# Altium footprint library JAE_MX23A18NF1.PcbLib: 1 footprints
Each footprint in its own frame and in the unit in brackets; x right, y up, seen from the top. Pads: shape width x height; smd on the part's side, far side on the other; paste and mask are expansions set on the pad; w line width, h text height; cw(c..) or ccw(c..) is an arc to the next point about the centre after c.
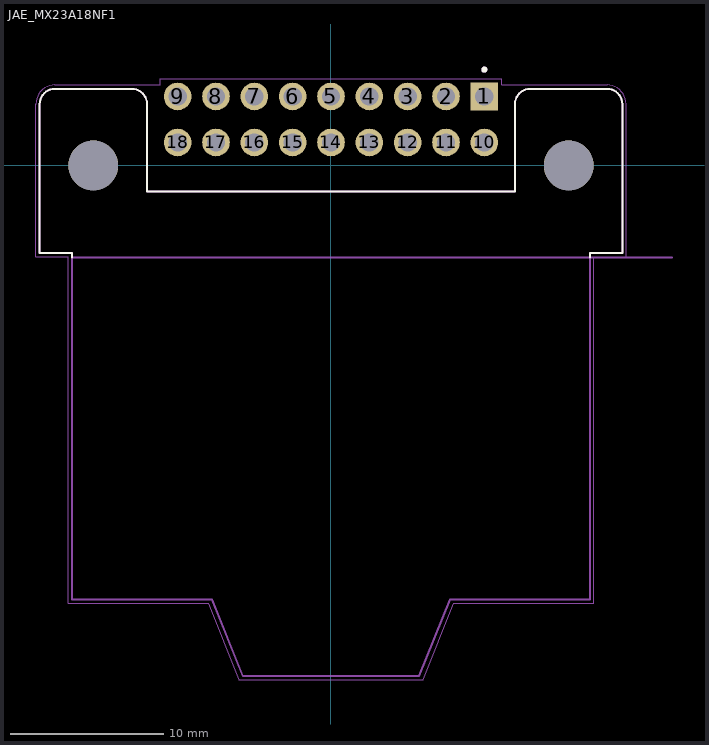
[diagram p0: the footprint, top view; thin cyan lines are the x and y axes]

## JAE_MX23A18NF1 [mm]
height 18.9
pads (20):
  rect 1.8x1.8 / inner round 1.8 / far side rect 1.8x1.8 hole 1.2 mask+0.102: 1(10,4.5)
  round 1.8 hole 1.2 mask+0.102: 2(7.5,4.5) 3(5,4.5) 4(2.5,4.5) 5(0,4.5) 6(-2.5,4.5) 7(-5,4.5) 8(-7.5,4.5) 9(-10,4.5) 10(10,1.5) 11(7.5,1.5) 12(5,1.5) 13(2.5,1.5) 14(0,1.5) 15(-2.5,1.5) 16(-5,1.5) 17(-7.5,1.5) 18(-10,1.5)
  round 3.25 hole 3.25 unplated mask+0: ""(-15.5,0) ""(15.5,0)
Top Overlay:
  circle w0.2: c10,6.25 r0.1
  lines w0.127: -16.9,-6 -16.9,-5.7 -19,-5.7 -19,4 cw(c-18,4) -18,5 -13,5 cw(c-13,4) -12,4 -12,-1.7 12,-1.7 12,4 cw(c13,4) 13,5 18,5 cw(c18,4) 19,4 19,-5.7 16.9,-5.7 16.9,-6
Assembly Top:
  circle w0.2: c10,6.25 r0.1
  lines w0.127: 22.25,-6 16.9,-6 ; -16.9,-6 16.9,-6 ; -16.9,-6 -16.9,-5.7 -19,-5.7 -19,4 cw(c-18,4) -18,5 -13,5 cw(c-13,4) -12,4 -12,-1.7 12,-1.7 12,4 cw(c13,4) 13,5 18,5 cw(c18,4) 19,4 19,-5.7 16.9,-5.7 16.9,-6 ; -16.9,-6 -16.9,-28.3 -7.75,-28.3 -5.75,-33.3 5.75,-33.3 7.75,-28.3 16.9,-28.3 16.9,-6
  text "PCB EDGE" at 19.5,-5.75 h0.81
Courtyard Top:
  lines w0.05: -19.25,-5.95 -17.15,-5.95 -17.15,-28.55 -8,-28.55 -6,-33.55 6,-33.55 8,-28.55 17.15,-28.55 17.15,-5.95 19.25,-5.95 19.25,4 ccw(c18,4) 18,5.25 11.15,5.25 11.15,5.65 -11.15,5.65 -11.15,5.25 -18,5.25 ccw(c-18,4) -19.25,4 -19.25,-5.95
3D body "MX23A18NF1.stp": height 18.36, standoff -3.05, extent -19.127,-33.194 18.873,5.106